# EAGLE library part 750312924 (library Midcom Inc - EAGLE Lib V2-0)
Package Style: EP5 Mounting: SMD Pins: 8 pins Bobbin: 070-6136 Best pinouts for production vary per application. Please contact Wurth Electronics Midcom, Inc. for assistance with your custom design. Website: Wurth Electronics Midcom <http://www.we-online.com/midcom> Contact us Wurth Electronics Midcom, Inc. 121 Airport Dr. Watertown, SD 57201 Phone: (605) 886-4385 Fax: (605) 886-4486 E-Mail: midcom@we-online.com
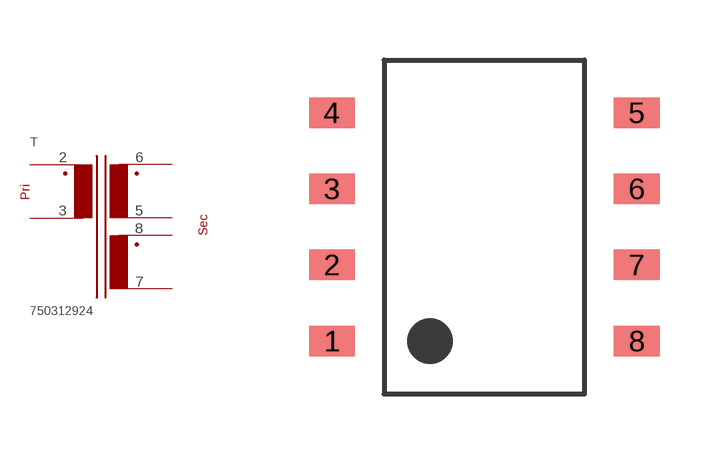
[diagram p55: symbol with the pads of EP5_SMD_H_8PIN_(6136); footprint EP5_SMD_H_8PIN_(6136)]

Designator prefix T

## 750312924  [EP5_SMD_H_8PIN_(6136)]
2  2  pas
3  3  pas
5  5  pas
6  6  pas
7  7  pas
8  8  pas

## Footprint EP5_SMD_H_8PIN_(6136) (pad centres in mm)
Package Style: EP5 Mounting: SMD Pins: 8 Bobbin: 070-6136
smd 1.143 x 0.762: 1 -3.81,-2.857; 2 -3.81,-0.953; 3 -3.81,0.953; 4 -3.81,2.857; 5 3.81,2.857; 6 3.81,0.953; 7 3.81,-0.953; 8 3.81,-2.857